# EAGLE library part ECMF4-40A100N10 (library Public)
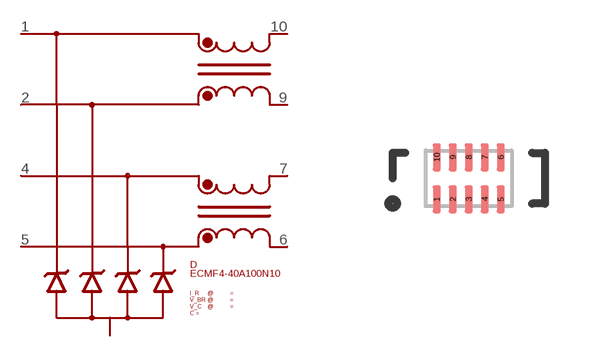
[diagram p163: symbol with the pads of µQFN-10L; footprint µQFN-10L]

Designator prefix D

## ECMF4-40A100N10 (C: 0.25pF; I_PP: 16A; I_R: 3nA; I_T: 1mA; V_BR: 5.8V; V_C: 20.5V; V_RWM: 5V)  [µQFN-10L]
1  D1+_CONNECTOR
2  D1-_CONNECTOR
3  GND
4  D2+_CONNECTOR
5  D2-_CONNECTOR
6  D2-_IC
7  D2+_IC
8  GND
9  D1-_IC
10  D1+_IC

## Footprint µQFN-10L (pad centres in mm)
smd 0.2 x 0.7: 1 -0.8,-0.525; 2 -0.4,-0.525; 3 0,-0.525; 4 0.4,-0.525; 5 0.8,-0.525; 6 0.8,0.525; 7 0.4,0.525; 8 0,0.525; 9 -0.4,0.525; 10 -0.8,0.525